# Altium schematic symbol library SCH - RF - SWITCH - QORVO RFSW6024TR13.SCHLIB: 1 symbol
Pins are listed as number, name and electrical type; pins without a type are passive.

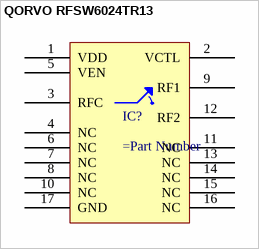
[diagram p0: symbol QORVO RFSW6024TR13]

## QORVO RFSW6024TR13
designator IC?
RF Switch IC 3G/4G/5G, LTE, WiMAX / WiBro SPDT 50Ohm 16-QFN (4x4)
pins: 1 VDD, 2 VCTL, 3 RFC, 4 NC, 5 VEN, 6 NC, 7 NC, 8 NC, 9 RF1, 10 NC, 11 NC, 12 RF2, 13 NC, 14 NC, 15 NC, 16 NC, 17 GND